# Altium schematic symbol library GL3520 4 Ports.SchLib: 96 symbols (part 2 of 2)
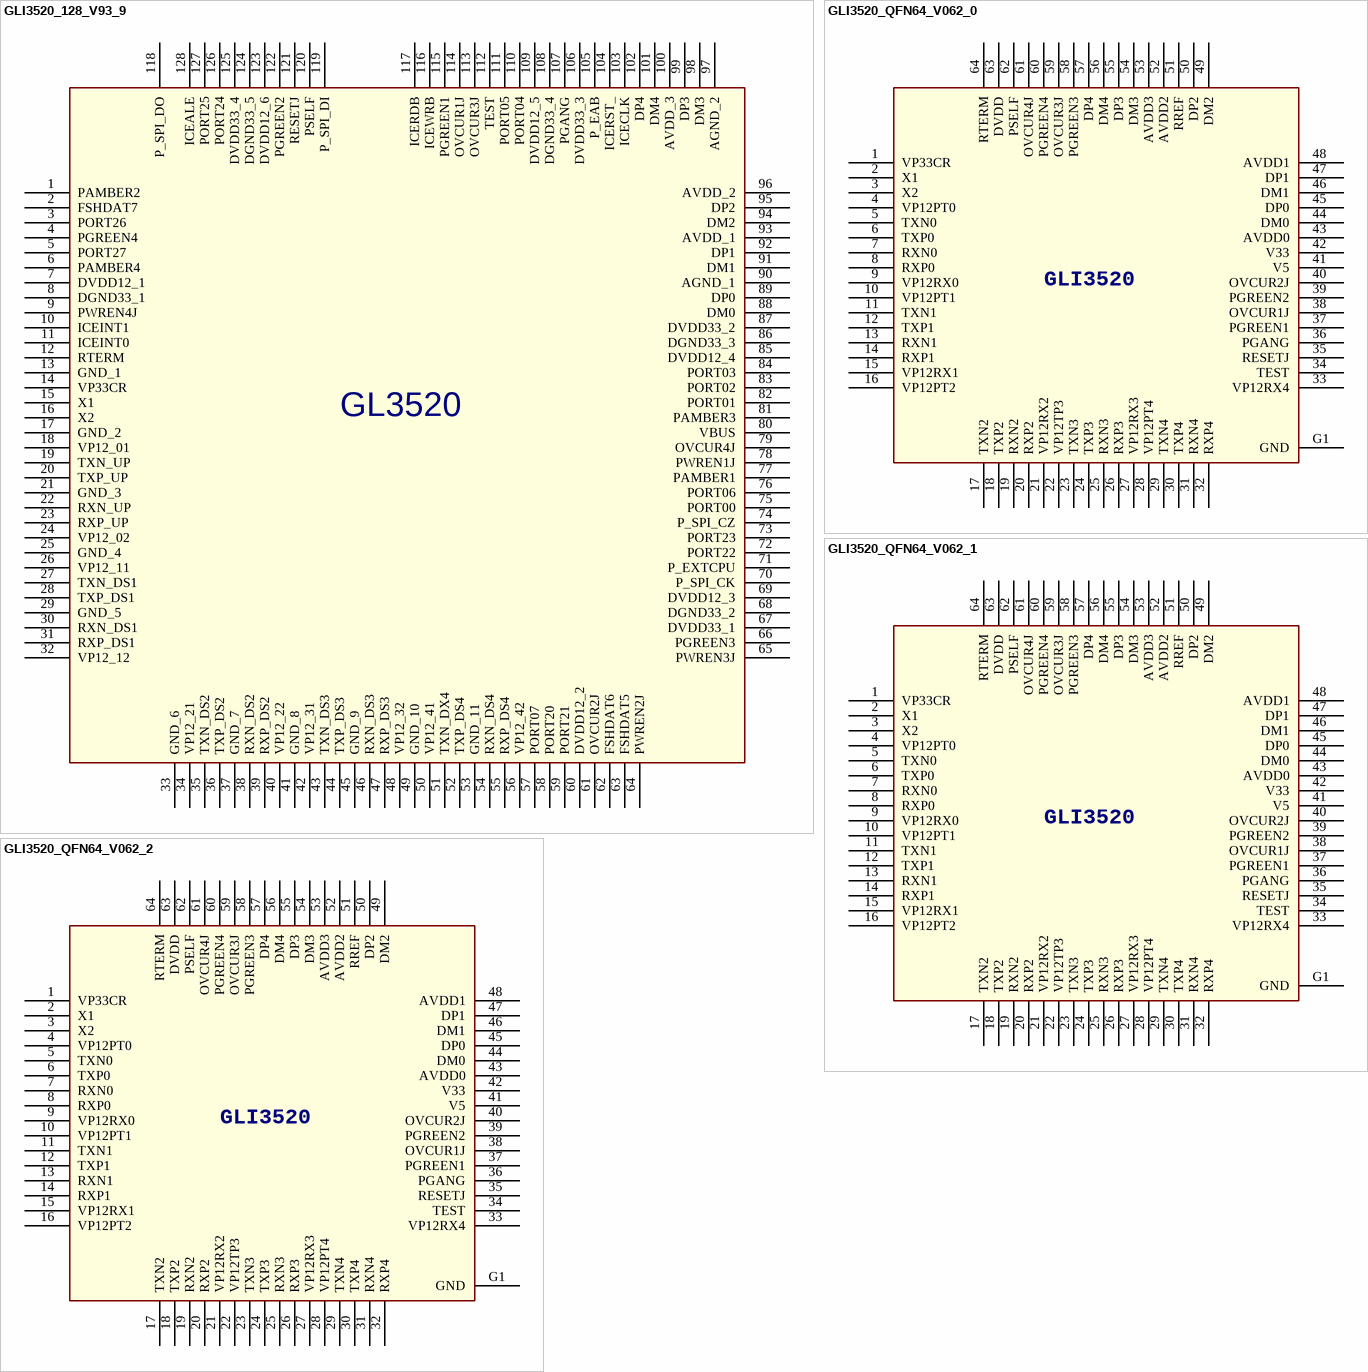
[diagram p21: symbols GLI3520_128_V93_9 to GLI3520_QFN64_V062_2]

## GLI3520_QFN64_V062_2
designator U?
footprint I-LQFN64-9x9x0_5A
pins: 1 VP33CR, 2 X1, 3 X2, 4 VP12PT0, 5 TXN0, 6 TXP0, 7 RXN0, 8 RXP0, 9 VP12RX0, 10 VP12PT1, 11 TXN1, 12 TXP1, 13 RXN1, 14 RXP1, 15 VP12RX1, 16 VP12PT2, 17 TXN2, 18 TXP2, 19 RXN2, 20 RXP2, 21 VP12RX2, 22 VP12TP3, 23 TXN3, 24 TXP3, 25 RXN3, 26 RXP3, 27 VP12RX3, 28 VP12PT4, 29 TXN4, 30 TXP4, 31 RXN4, 32 RXP4, 33 VP12RX4, 34 TEST, 35 RESETJ, 36 PGANG, 37 PGREEN1, 38 OVCUR1J, 39 PGREEN2, 40 OVCUR2J, 41 V5, 42 V33, 43 AVDD0, 44 DM0, 45 DP0, 46 DM1, 47 DP1, 48 AVDD1, 49 DM2, 50 DP2, 51 RREF, 52 AVDD2, 53 AVDD3, 54 DM3, 55 DP3, 56 DM4, 57 DP4, 58 PGREEN3, 59 OVCUR3J, 60 PGREEN4, 61 OVCUR4J, 62 PSELF, 63 DVDD, 64 RTERM, G1 GND
text: GLI3520

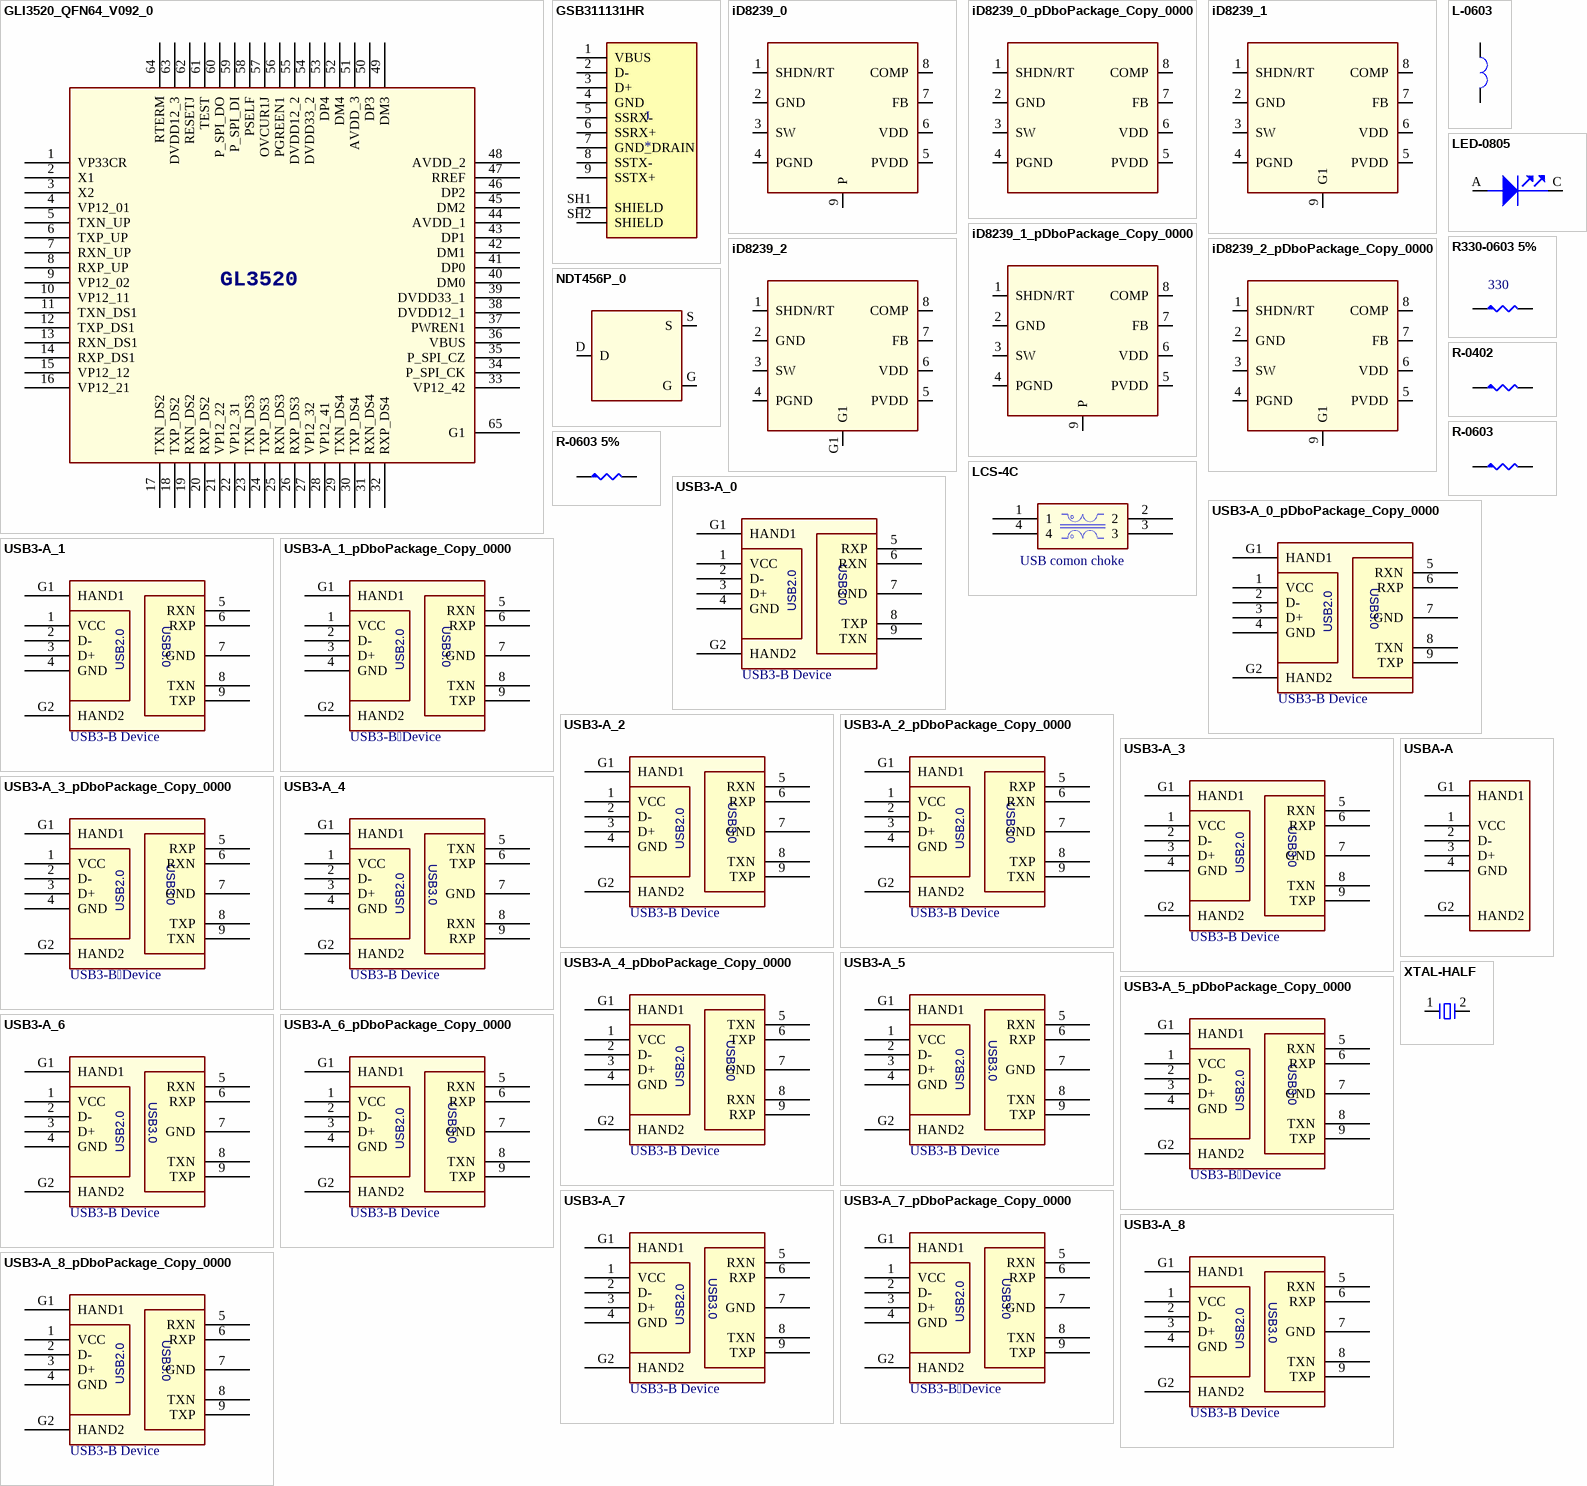
[diagram p20: symbols GLI3520_QFN64_V092_0 to XTAL-HALF]

## GLI3520_QFN64_V092_0
designator U?
footprint I-LQFN64-9x9x0_5A
pins: 1 VP33CR, 2 X1, 3 X2, 4 VP12_01, 5 TXN_UP, 6 TXP_UP, 7 RXN_UP, 8 RXP_UP, 9 VP12_02, 10 VP12_11, 11 TXN_DS1, 12 TXP_DS1, 13 RXN_DS1, 14 RXP_DS1, 15 VP12_12, 16 VP12_21, 17 TXN_DS2, 18 TXP_DS2, 19 RXN_DS2, 20 RXP_DS2, 21 VP12_22, 22 VP12_31, 23 TXN_DS3, 24 TXP_DS3, 25 RXN_DS3, 26 RXP_DS3, 27 VP12_32, 28 VP12_41, 29 TXN_DS4, 30 TXP_DS4, 31 RXN_DS4, 32 RXP_DS4, 33 VP12_42, 34 P_SPI_CK, 35 P_SPI_CZ, 36 VBUS, 37 PWREN1, 38 DVDD12_1, 39 DVDD33_1, 40 DM0, 41 DP0, 42 DM1, 43 DP1, 44 AVDD_1, 45 DM2, 46 DP2, 47 RREF, 48 AVDD_2, 49 DM3, 50 DP3, 51 AVDD_3, 52 DM4, 53 DP4, 54 DVDD33_2, 55 DVDD12_2, 56 PGREEN1, 57 OVCUR1J, 58 PSELF, 59 P_SPI_DI, 60 P_SPI_DO, 61 TEST, 62 RESETJ, 63 DVDD12_3, 64 RTERM, 65 G1
text: GL3520

## GSB311131HR
designator J
USB-A _USB TYPE-A_ USB 3.0 _USB 3.1 Gen 1, Superspeed_ Receptacle Connector 9 Position Through Hole, Right Angle; MF: Amphenol ICC; MP: GSB311131HR; Package: None; Digi-Key_Purchase_URL: https://www.digikey.ru/product-detail/en/amphenol-icc-commercial-products/GSB311131HR/GSB311131HR-ND/2187173?utm_source=snapeda&utm_medium=aggregator&utm_campaign=symbol; Value: *; SnapEDA_Link: https://www.snapeda.com/parts/GSB311131HR/Amphenol%20FCI/view-part/229215/?ref=snap; Digi-Key_Part_Number: GSB311131HR-ND
footprint AMPHENOL_GSB311131HR
pins: 1 VBUS, 2 D-, 3 D+, 4 GND, 5 SSRX-, 6 SSRX+, 7 GND_DRAIN, 8 SSTX-, 9 SSTX+, SH1 SHIELD, SH2 SHIELD

## iD8239_0
designator U?
pins: 1 SHDN/RT, 2 GND, 3 SW, 4 PGND, 5 PVDD, 6 VDD, 7 FB, 8 COMP, 9 P

## iD8239_0_pDboPackage_Copy_0000
designator U?
pins: 1 SHDN/RT, 2 GND, 3 SW, 4 PGND, 5 PVDD, 6 VDD, 7 FB, 8 COMP

## iD8239_1
designator U?
pins: 1 SHDN/RT, 2 GND, 3 SW, 4 PGND, 5 PVDD, 6 VDD, 7 FB, 8 COMP, 9 G1

## iD8239_1_pDboPackage_Copy_0000
designator U?
pins: 1 SHDN/RT, 2 GND, 3 SW, 4 PGND, 5 PVDD, 6 VDD, 7 FB, 8 COMP, 9 P

## iD8239_2
designator U?
pins: 1 SHDN/RT, 2 GND, 3 SW, 4 PGND, 5 PVDD, 6 VDD, 7 FB, 8 COMP, G1

## iD8239_2_pDboPackage_Copy_0000
designator U?
pins: 1 SHDN/RT, 2 GND, 3 SW, 4 PGND, 5 PVDD, 6 VDD, 7 FB, 8 COMP, 9 G1

## L-0603
designator L?
footprint LBS-0603
pins: 1, 2

## LCS-4C
designator CM?, comment USB comon choke
footprint LCS-4C
pins: 1, 2, 3, 4

## LED-0805
designator LED?
footprint LED-0805
pins: A 1, C 2

## NDT456P_0
designator Q?
footprint T-SOT223-GDS-A
pins: D, G, S

## R330-0603 5%
designator R?, comment 330
CLASS: DISCRETE; BOM: SMD-R 330 (0603) 5%
footprint R0603
pins: 1, 2

## R-0402
designator R?
footprint RS-0402
pins: 1, 2

## R-0603
designator R?
footprint RS-0603
pins: 1, 2

## R-0603 5%
designator R?
CLASS: DISCRETE; BOM: SMD-R ?K (0603) 5%
footprint R0603
pins: 1, 2

## USB3-A_0
designator PORT?, comment USB3-B Device
footprint CND-USB3-A
pins: 1 VCC (power), 2 D-, 3 D+, 4 GND (power), 5 RXP, 6 RXN, 7 GND (power), 8 TXP, 9 TXN, G1 HAND1, G2 HAND2
text: USB3.0; USB2.0

## USB3-A_0_pDboPackage_Copy_0000
designator PORT?, comment USB3-B Device
footprint CND-USB3-A
pins: 1 VCC (power), 2 D-, 3 D+, 4 GND (power), 5 RXN, 6 RXP, 7 GND (power), 8 TXN, 9 TXP, G1 HAND1, G2 HAND2
text: USB3.0; USB2.0

## USB3-A_1
designator PORT?, comment USB3-B Device
footprint CND-USB3-A
pins: 1 VCC (power), 2 D-, 3 D+, 4 GND (power), 5 RXN, 6 RXP, 7 GND (power), 8 TXN, 9 TXP, G1 HAND1, G2 HAND2
text: USB3.0; USB2.0

## USB3-A_1_pDboPackage_Copy_0000
designator PORT?, comment USB3-BDevice
footprint CND-USB3-A
pins: 1 VCC (power), 2 D-, 3 D+, 4 GND (power), 5 RXN, 6 RXP, 7 GND (power), 8 TXN, 9 TXP, G1 HAND1, G2 HAND2
text: USB3.0; USB2.0

## USB3-A_2
designator PORT?, comment USB3-B Device
footprint CND-USB3-A
pins: 1 VCC (power), 2 D-, 3 D+, 4 GND (power), 5 RXN, 6 RXP, 7 GND (power), 8 TXN, 9 TXP, G1 HAND1, G2 HAND2
text: USB3.0; USB2.0

## USB3-A_2_pDboPackage_Copy_0000
designator PORT?, comment USB3-B Device
footprint CND-USB3-A
pins: 1 VCC (power), 2 D-, 3 D+, 4 GND (power), 5 RXP, 6 RXN, 7 GND (power), 8 TXP, 9 TXN, G1 HAND1, G2 HAND2
text: USB3.0; USB2.0

## USB3-A_3
designator PORT?, comment USB3-B Device
footprint CND-USB3-A
pins: 1 VCC (power), 2 D-, 3 D+, 4 GND (power), 5 RXN, 6 RXP, 7 GND (power), 8 TXN, 9 TXP, G1 HAND1, G2 HAND2
text: USB3.0; USB2.0

## USB3-A_3_pDboPackage_Copy_0000
designator PORT?, comment USB3-BDevice
footprint CND-USB3-A
pins: 1 VCC (power), 2 D-, 3 D+, 4 GND (power), 5 RXP, 6 RXN, 7 GND (power), 8 TXP, 9 TXN, G1 HAND1, G2 HAND2
text: USB3.0; USB2.0

## USB3-A_4
designator PORT?, comment USB3-B Device
footprint CND-USB3-A
pins: 1 VCC (power), 2 D-, 3 D+, 4 GND (power), 5 TXN, 6 TXP, 7 GND (power), 8 RXN, 9 RXP, G1 HAND1, G2 HAND2
text: USB3.0; USB2.0

## USB3-A_4_pDboPackage_Copy_0000
designator PORT?, comment USB3-B Device
footprint CND-USB3-A
pins: 1 VCC (power), 2 D-, 3 D+, 4 GND (power), 5 TXN, 6 TXP, 7 GND (power), 8 RXN, 9 RXP, G1 HAND1, G2 HAND2
text: USB3.0; USB2.0

## USB3-A_5
designator PORT?, comment USB3-B Device
footprint CND-USB3-A
pins: 1 VCC (power), 2 D-, 3 D+, 4 GND (power), 5 RXN, 6 RXP, 7 GND (power), 8 TXN, 9 TXP, G1 HAND1, G2 HAND2
text: USB3.0; USB2.0

## USB3-A_5_pDboPackage_Copy_0000
designator PORT?, comment USB3-BDevice
footprint CND-USB3-A
pins: 1 VCC (power), 2 D-, 3 D+, 4 GND (power), 5 RXN, 6 RXP, 7 GND (power), 8 TXN, 9 TXP, G1 HAND1, G2 HAND2
text: USB3.0; USB2.0

## USB3-A_6
designator PORT?, comment USB3-B Device
footprint CND-USB3-A
pins: 1 VCC (power), 2 D-, 3 D+, 4 GND (power), 5 RXN, 6 RXP, 7 GND (power), 8 TXN, 9 TXP, G1 HAND1, G2 HAND2
text: USB3.0; USB2.0

## USB3-A_6_pDboPackage_Copy_0000
designator PORT?, comment USB3-B Device
footprint CND-USB3-A
pins: 1 VCC (power), 2 D-, 3 D+, 4 GND (power), 5 RXN, 6 RXP, 7 GND (power), 8 TXN, 9 TXP, G1 HAND1, G2 HAND2
text: USB3.0; USB2.0

## USB3-A_7
designator PORT?, comment USB3-B Device
footprint CND-USB3-A
pins: 1 VCC (power), 2 D-, 3 D+, 4 GND (power), 5 RXN, 6 RXP, 7 GND (power), 8 TXN, 9 TXP, G1 HAND1, G2 HAND2
text: USB3.0; USB2.0

## USB3-A_7_pDboPackage_Copy_0000
designator PORT?, comment USB3-BDevice
footprint CND-USB3-A
pins: 1 VCC (power), 2 D-, 3 D+, 4 GND (power), 5 RXN, 6 RXP, 7 GND (power), 8 TXN, 9 TXP, G1 HAND1, G2 HAND2
text: USB3.0; USB2.0

## USB3-A_8
designator PORT?, comment USB3-B Device
footprint CND-USB3-A
pins: 1 VCC (power), 2 D-, 3 D+, 4 GND (power), 5 RXN, 6 RXP, 7 GND (power), 8 TXN, 9 TXP, G1 HAND1, G2 HAND2
text: USB3.0; USB2.0

## USB3-A_8_pDboPackage_Copy_0000
designator PORT?, comment USB3-B Device
footprint CND-USB3-A
pins: 1 VCC (power), 2 D-, 3 D+, 4 GND (power), 5 RXN, 6 RXP, 7 GND (power), 8 TXN, 9 TXP, G1 HAND1, G2 HAND2
text: USB3.0; USB2.0

## USBA-A
designator USB?
footprint CND-USBA-A
pins: 1 VCC, 2 D-, 3 D+, 4 GND, G1 HAND1, G2 HAND2

## XTAL-HALF
designator X?
BOM: DIP-XTAL ?MHz HALF <TXC>
footprint XD-49US-A
pins: 1, 2